# EAGLE library part W25Q32RVSNJQ (library FaBo-NORFLASH)
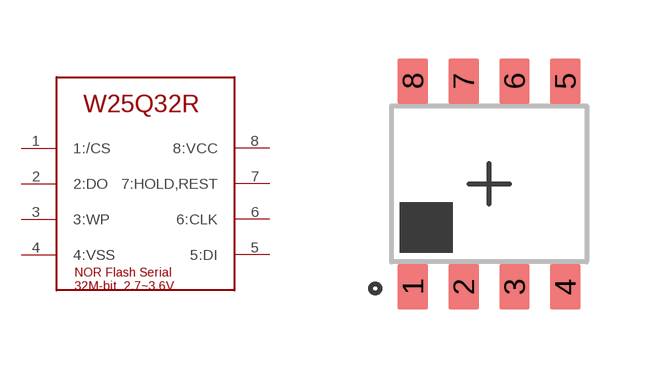
[diagram p2: symbol with the pads of SOIC8(150MIL); footprint SOIC8(150MIL)]

Designator prefix -

## W25Q32RVSNJQ  [SOIC8(150MIL)]
1  1:/CS  in
2  2:DO  out
3  3:WP
4  4:VSS  pwr
5  5:DI
6  6:CLK  in
7  7:HOLD,REST
8  8:VCC  pwr

## Footprint SOIC8(150MIL) (pad centres in mm)
smd 0.762 x 1.143: 1 -1.905,-2.572; 2 -0.635,-2.572; 3 0.635,-2.572; 4 1.905,-2.572; 5 1.905,2.572; 6 0.635,2.572; 7 -0.635,2.572; 8 -1.905,2.572